# EAGLE library part DENBRAIN_COM_MOD1 (library Dennistries-Josh)
DenBrain Com Mod
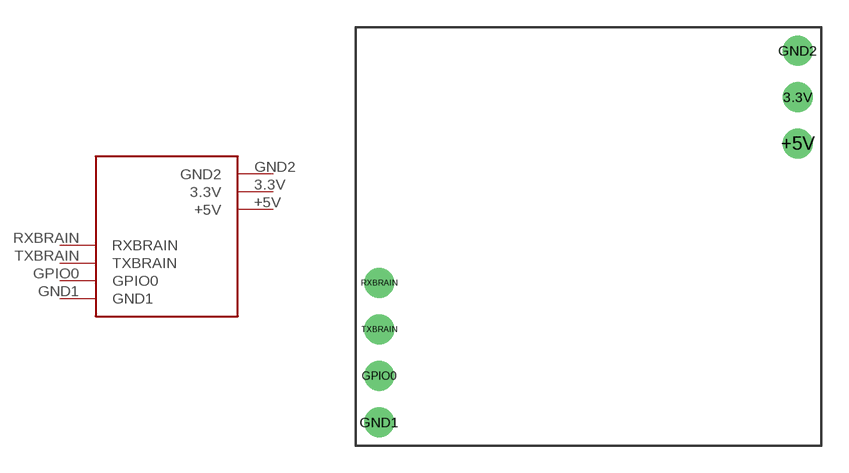
[diagram p2: symbol with the pads of DENBRAIN_COM_MOD1; footprint DENBRAIN_COM_MOD1]

Designator prefix -

## DENBRAIN_COM_MOD1  [DENBRAIN_COM_MOD1]
3.3V  3.3V
+5V  +5V
GND1  GND1
GND2  GND2
GPIO0  GPIO0
RXBRAIN  RXBRAIN
TXBRAIN  TXBRAIN

## Footprint DENBRAIN_COM_MOD1 (pad centres in mm)
drill 1.1: 3.3V 10.795,10.16; +5V 10.795,7.62; GND1 -12.065,-7.62; GND2 10.795,12.7; GPIO0 -12.065,-5.08; RXBRAIN -12.065,0; TXBRAIN -12.065,-2.54